# Altium footprint library PCB库.PcbLib: 1 footprints
Each footprint in its own frame and in the unit in brackets; x right, y up, seen from the top. Pads: shape width x height; smd on the part's side, far side on the other; paste and mask are expansions set on the pad; w line width, h text height; cw(c..) or ccw(c..) is an arc to the next point about the centre after c.
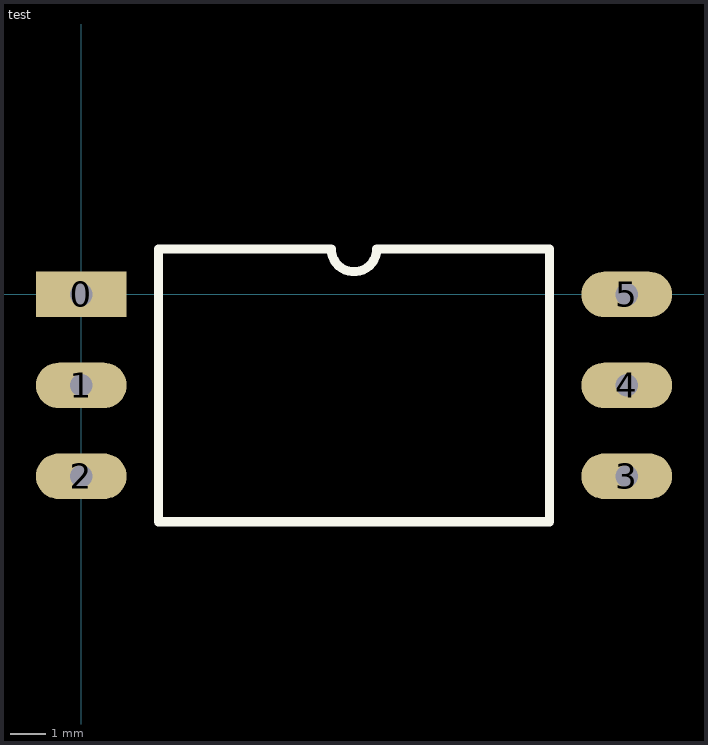
[diagram p0: the footprint, top view; thin cyan lines are the x and y axes]

## test [mil]
pads (6):
  rect 100x50 hole 25: 0(0,0)
  oval 100x50 hole 25: 1(0,-100) 2(0,-200) 3(600,-200) 4(600,-100) 5(600,0)
Top Overlay:
  lines w10: 85,-250 85,50 275,50 ccw(c300,50) 325,50 515,50 515,-250 85,-250